# Altium schematic symbol library SCH - MCU - NUVOTON - NUVOTON M451RC3AE.SchLib: 1 symbol
Pins are listed as number, name and electrical type; pins without a type are passive.

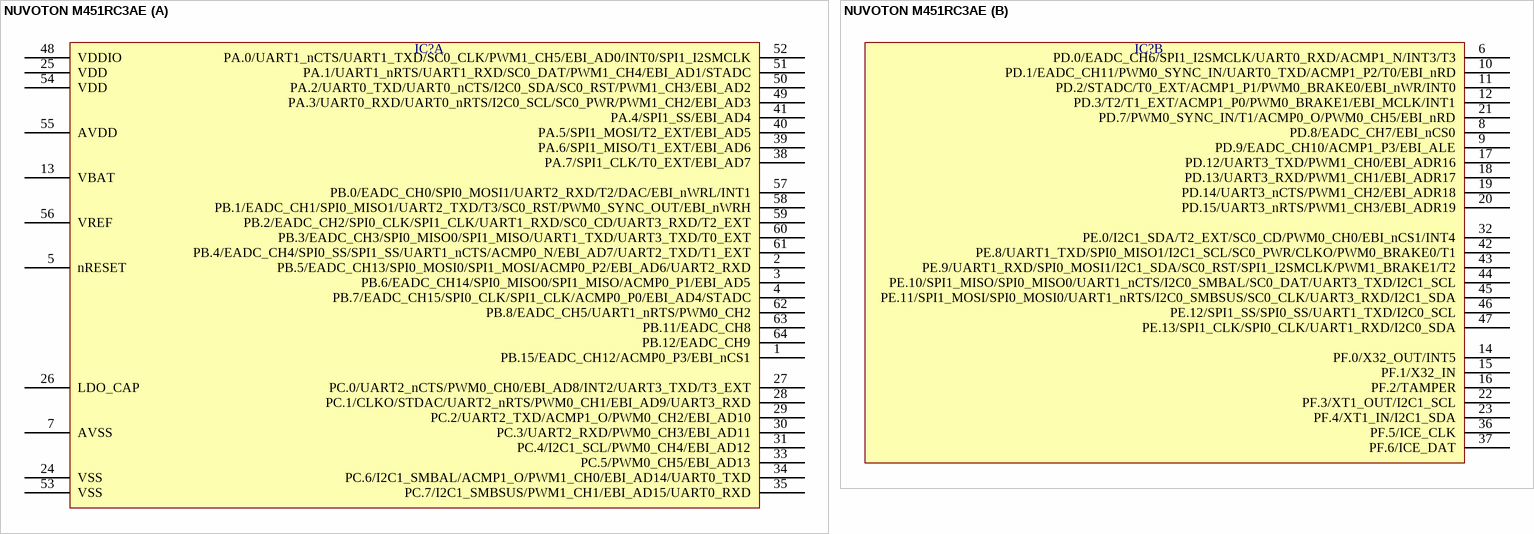
[diagram p0: symbol NUVOTON M451RC3AE]

## NUVOTON M451RC3AE
designator IC?  (value not drawn)
part A pins: 1 PB.15/EADC_CH12/ACMP0_P3/EBI_nCS1, 2 PB.5/EADC_CH13/SPI0_MOSI0/SPI1_MOSI/ACMP0_P2/EBI_AD6/UART2_RXD, 3 PB.6/EADC_CH14/SPI0_MISO0/SPI1_MISO/ACMP0_P1/EBI_AD5, 4 PB.7/EADC_CH15/SPI0_CLK/SPI1_CLK/ACMP0_P0/EBI_AD4/STADC, 5 nRESET, 7 AVSS, 13 VBAT, 24 VSS, 25 VDD, 26 LDO_CAP, 27 PC.0/UART2_nCTS/PWM0_CH0/EBI_AD8/INT2/UART3_TXD/T3_EXT, 28 PC.1/CLKO/STDAC/UART2_nRTS/PWM0_CH1/EBI_AD9/UART3_RXD, 29 PC.2/UART2_TXD/ACMP1_O/PWM0_CH2/EBI_AD10, 30 PC.3/UART2_RXD/PWM0_CH3/EBI_AD11, 31 PC.4/I2C1_SCL/PWM0_CH4/EBI_AD12, 33 PC.5/PWM0_CH5/EBI_AD13, 34 PC.6/I2C1_SMBAL/ACMP1_O/PWM1_CH0/EBI_AD14/UART0_TXD, 35 PC.7/I2C1_SMBSUS/PWM1_CH1/EBI_AD15/UART0_RXD, 38 PA.7/SPI1_CLK/T0_EXT/EBI_AD7, 39 PA.6/SPI1_MISO/T1_EXT/EBI_AD6, 40 PA.5/SPI1_MOSI/T2_EXT/EBI_AD5, 41 PA.4/SPI1_SS/EBI_AD4, 48 VDDIO, 49 PA.3/UART0_RXD/UART0_nRTS/I2C0_SCL/SC0_PWR/PWM1_CH2/EBI_AD3, 50 PA.2/UART0_TXD/UART0_nCTS/I2C0_SDA/SC0_RST/PWM1_CH3/EBI_AD2, 51 PA.1/UART1_nRTS/UART1_RXD/SC0_DAT/PWM1_CH4/EBI_AD1/STADC, 52 PA.0/UART1_nCTS/UART1_TXD/SC0_CLK/PWM1_CH5/EBI_AD0/INT0/SPI1_I2SMCLK, 53 VSS, 54 VDD, 55 AVDD, 56 VREF, 57 PB.0/EADC_CH0/SPI0_MOSI1/UART2_RXD/T2/DAC/EBI_nWRL/INT1, 58 PB.1/EADC_CH1/SPI0_MISO1/UART2_TXD/T3/SC0_RST/PWM0_SYNC_OUT/EBI_nWRH, 59 PB.2/EADC_CH2/SPI0_CLK/SPI1_CLK/UART1_RXD/SC0_CD/UART3_RXD/T2_EXT, 60 PB.3/EADC_CH3/SPI0_MISO0/SPI1_MISO/UART1_TXD/UART3_TXD/T0_EXT, 61 PB.4/EADC_CH4/SPI0_SS/SPI1_SS/UART1_nCTS/ACMP0_N/EBI_AD7/UART2_TXD/T1_EXT, 62 PB.8/EADC_CH5/UART1_nRTS/PWM0_CH2, 63 PB.11/EADC_CH8, 64 PB.12/EADC_CH9
part B pins: 6 PD.0/EADC_CH6/SPI1_I2SMCLK/UART0_RXD/ACMP1_N/INT3/T3, 8 PD.8/EADC_CH7/EBI_nCS0, 9 PD.9/EADC_CH10/ACMP1_P3/EBI_ALE, 10 PD.1/EADC_CH11/PWM0_SYNC_IN/UART0_TXD/ACMP1_P2/T0/EBI_nRD, 11 PD.2/STADC/T0_EXT/ACMP1_P1/PWM0_BRAKE0/EBI_nWR/INT0, 12 PD.3/T2/T1_EXT/ACMP1_P0/PWM0_BRAKE1/EBI_MCLK/INT1, 14 PF.0/X32_OUT/INT5, 15 PF.1/X32_IN, 16 PF.2/TAMPER, 17 PD.12/UART3_TXD/PWM1_CH0/EBI_ADR16, 18 PD.13/UART3_RXD/PWM1_CH1/EBI_ADR17, 19 PD.14/UART3_nCTS/PWM1_CH2/EBI_ADR18, 20 PD.15/UART3_nRTS/PWM1_CH3/EBI_ADR19, 21 PD.7/PWM0_SYNC_IN/T1/ACMP0_O/PWM0_CH5/EBI_nRD, 22 PF.3/XT1_OUT/I2C1_SCL, 23 PF.4/XT1_IN/I2C1_SDA, 32 PE.0/I2C1_SDA/T2_EXT/SC0_CD/PWM0_CH0/EBI_nCS1/INT4, 36 PF.5/ICE_CLK, 37 PF.6/ICE_DAT, 42 PE.8/UART1_TXD/SPI0_MISO1/I2C1_SCL/SC0_PWR/CLKO/PWM0_BRAKE0/T1, 43 PE.9/UART1_RXD/SPI0_MOSI1/I2C1_SDA/SC0_RST/SPI1_I2SMCLK/PWM1_BRAKE1/T2, 44 PE.10/SPI1_MISO/SPI0_MISO0/UART1_nCTS/I2C0_SMBAL/SC0_DAT/UART3_TXD/I2C1_SCL, 45 PE.11/SPI1_MOSI/SPI0_MOSI0/UART1_nRTS/I2C0_SMBSUS/SC0_CLK/UART3_RXD/I2C1_SDA, 46 PE.12/SPI1_SS/SPI0_SS/UART1_TXD/I2C0_SCL, 47 PE.13/SPI1_CLK/SPI0_CLK/UART1_RXD/I2C0_SDA